# Altium footprint library CONN-SPE_MOLEX_43045-0801.PcbLib: 1 footprints
Each footprint in its own frame and in the unit in brackets; x right, y up, seen from the top. Pads: shape width x height; smd on the part's side, far side on the other; paste and mask are expansions set on the pad; w line width, h text height; cw(c..) or ccw(c..) is an arc to the next point about the centre after c.
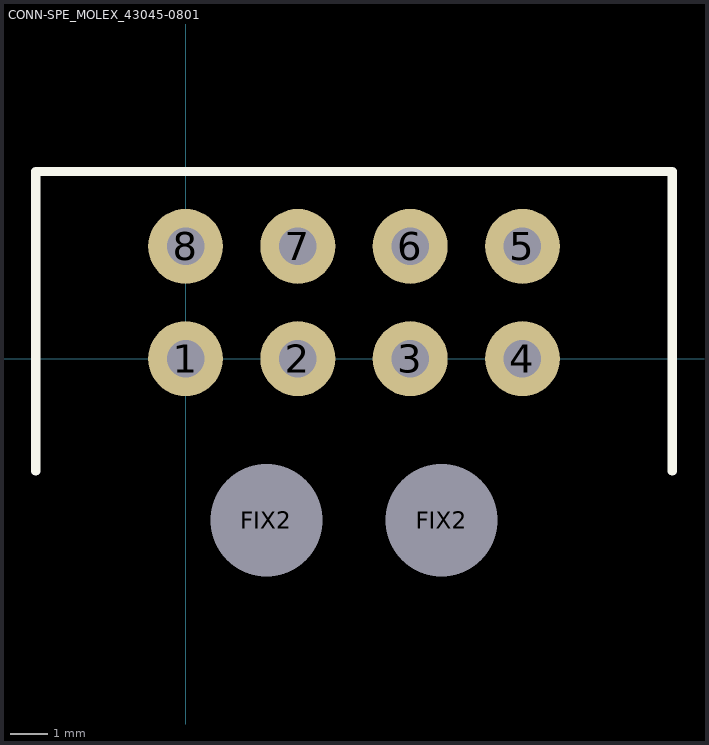
[diagram p0: the footprint, top view; thin cyan lines are the x and y axes]

## CONN-SPE_MOLEX_43045-0801 [mm]
pads (10):
  round 2 hole 1: 1(0,0) 2(3,0) 3(6,0) 4(9,0) 5(9,3) 6(6,3) 7(3,3) 8(0,3)
  round 2 hole 3: FIX2(2.16,-4.32) FIX2(6.84,-4.32)
Top Overlay:
  lines w0.25: -4,-3 -4,5 13,5 13,-3
3D body: height 8.78, standoff -3.17, extent -3.577,-8.887 12.573,3.353